# Altium footprint library RF_Shielding.PcbLib: 30 footprints (part 2 of 2)
Each footprint in its own frame and in the unit in brackets; x right, y up, seen from the top. Pads: shape width x height; smd on the part's side, far side on the other; paste and mask are expansions set on the pad; w line width, h text height; cw(c..) or ccw(c..) is an arc to the next point about the centre after c.
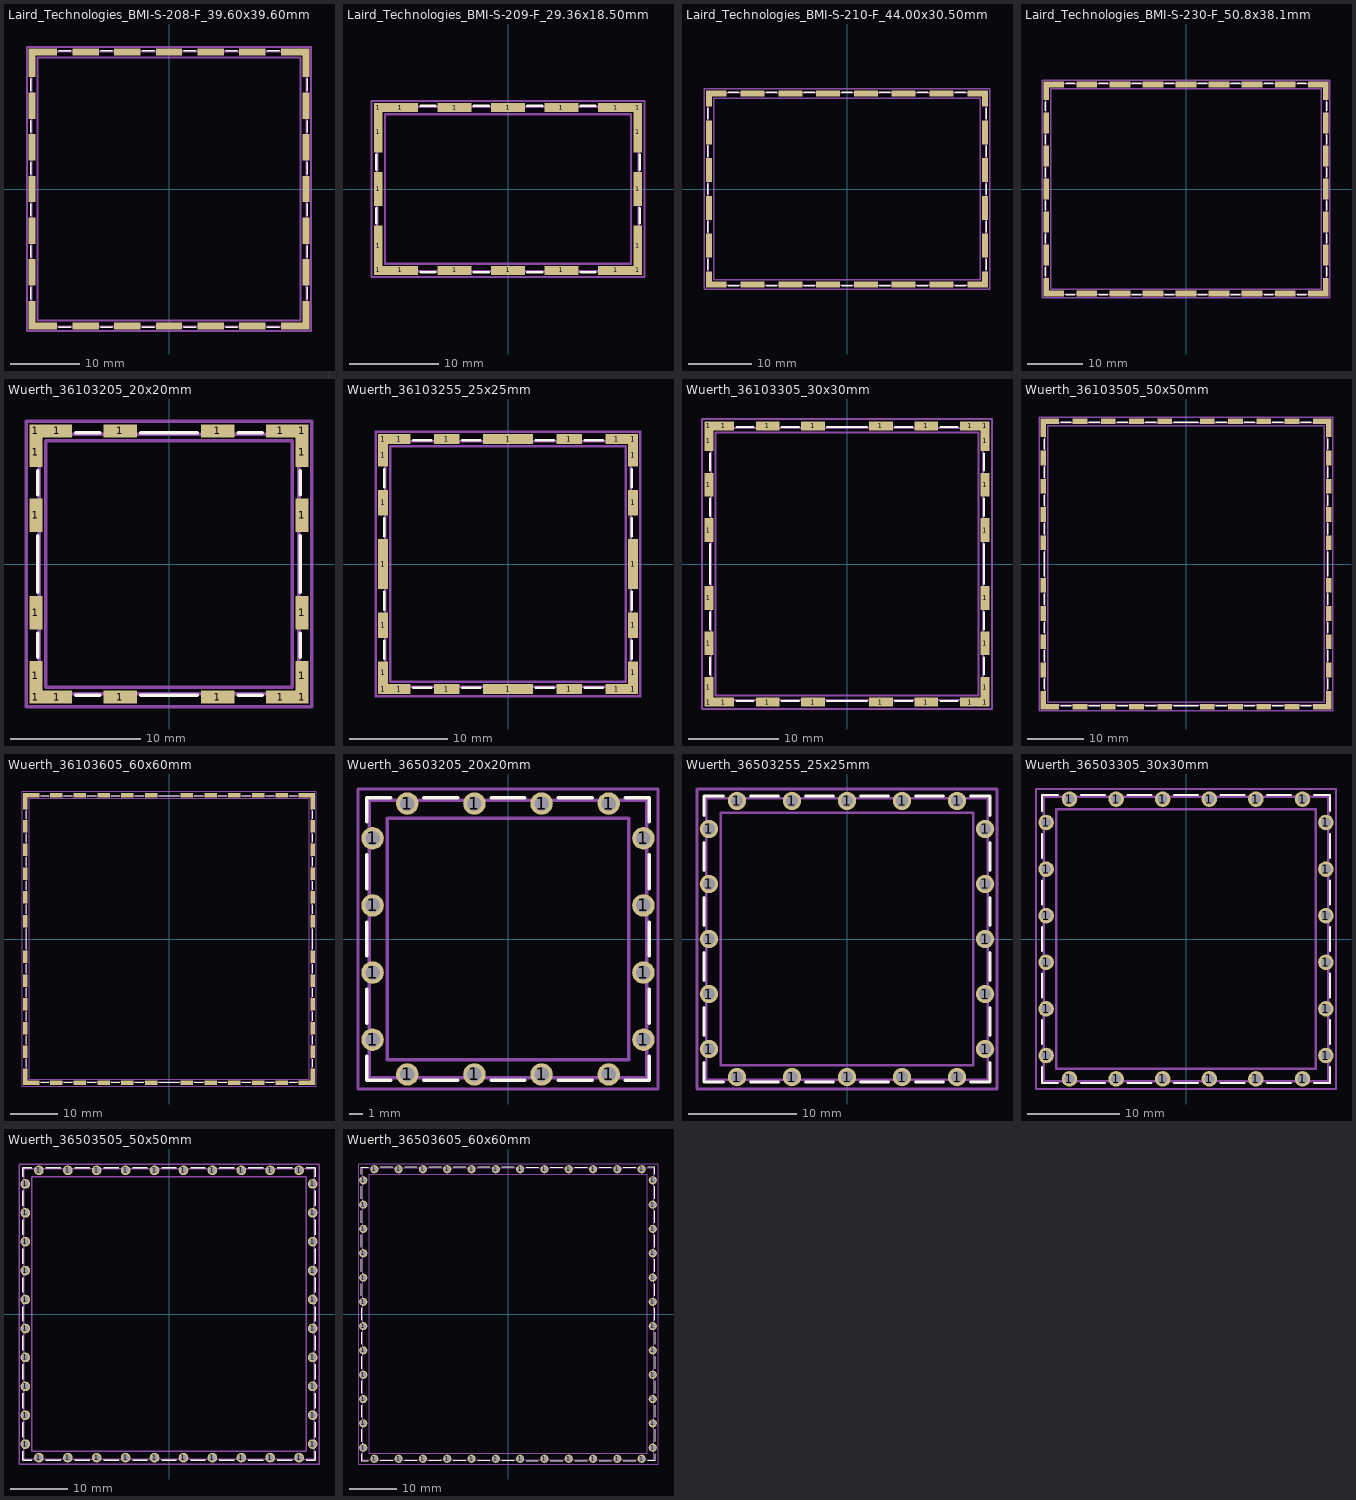
[diagram p1: the footprints below, top view; thin cyan lines are the x and y axes]

## Laird_Technologies_BMI-S-208-F_39.60x39.60mm [mm]
pads (32):
  rect 1x1 smd: 1(-19.7,-19.7) 1(-19.7,19.7) 1(19.7,-19.7) 1(19.7,19.7)
  rect 1x3.1 smd: 1(-19.7,-17.65) 1(-19.7,17.65) 1(19.7,-17.65) 1(19.7,17.65)
  rect 1x3.8 smd: 1(-19.7,-12) 1(-19.7,-6) 1(-19.7,0) 1(-19.7,6) 1(-19.7,12) 1(19.7,-12) 1(19.7,-6) 1(19.7,0) 1(19.7,6) 1(19.7,12)
  rect 3.1x1 smd: 1(-17.65,-19.7) 1(-17.65,19.7) 1(17.65,-19.7) 1(17.65,19.7)
  rect 3.8x1 smd: 1(-12,-19.7) 1(-12,19.7) 1(-6,-19.7) 1(-6,19.7) 1(0,-19.7) 1(0,19.7) 1(6,-19.7) 1(6,19.7) 1(12,-19.7) 1(12,19.7)
F.SilkS:
  lines w0.254: -19.91,-15.84 -19.91,-14.16 ; -19.91,-9.84 -19.91,-8.16 ; -19.91,-3.84 -19.91,-2.16 ; -19.91,2.16 -19.91,3.84 ; -19.91,8.16 -19.91,9.84 ; -19.91,14.16 -19.91,15.84 ; -15.84,-19.91 -14.16,-19.91 ; -15.84,19.91 -14.16,19.91 ; -9.84,-19.91 -8.16,-19.91 ; -9.84,19.91 -8.16,19.91 ; -3.84,-19.91 -2.16,-19.91 ; -3.84,19.91 -2.16,19.91 ; 2.16,-19.91 3.84,-19.91 ; 2.16,19.91 3.84,19.91 ; 8.16,-19.91 9.84,-19.91 ; 8.16,19.91 9.84,19.91 ; 14.16,-19.91 15.84,-19.91 ; 14.16,19.91 15.84,19.91 ; 19.91,-15.84 19.91,-14.16 ; 19.91,-9.84 19.91,-8.16 ; 19.91,-3.84 19.91,-2.16 ; 19.91,2.16 19.91,3.84 ; 19.91,8.16 19.91,9.84 ; 19.91,14.16 19.91,15.84
F.Fab:
  lines w0.254: -19.8,-19.8 -19.8,19.8 19.8,19.8 19.8,-19.8 -19.8,-19.8
  text "'.Designator'" at -4.047,-0.84 h1
F.CrtYd:
  lines w0.254: -20.45,-20.45 -20.45,20.45 20.45,20.45 20.45,-20.45 -20.45,-20.45 ; -18.95,-18.95 -18.95,18.95 18.95,18.95 18.95,-18.95 -18.95,-18.95

## Laird_Technologies_BMI-S-209-F_29.36x18.50mm [mm]
pads (20):
  rect 1x1 smd: 1(-14.58,-9.15) 1(-14.58,9.15) 1(14.58,-9.15) 1(14.58,9.15)
  rect 1x4.55 smd: 1(-14.58,-6.375) 1(-14.58,6.375) 1(14.58,-6.375) 1(14.58,6.375)
  rect 1x3.8 smd: 1(-14.58,0) 1(14.58,0)
  rect 3.98x1 smd: 1(-12.09,-9.15) 1(-12.09,9.15) 1(12.09,-9.15) 1(12.09,9.15)
  rect 3.8x1 smd: 1(-6,-9.15) 1(-6,9.15) 1(0,-9.15) 1(0,9.15) 1(6,-9.15) 1(6,9.15)
F.SilkS:
  lines w0.254: -14.79,-3.84 -14.79,-2.16 ; -14.79,2.16 -14.79,3.84 ; -9.84,-9.36 -8.16,-9.36 ; -9.84,9.36 -8.16,9.36 ; -3.84,-9.36 -2.16,-9.36 ; -3.84,9.36 -2.16,9.36 ; 2.16,-9.36 3.84,-9.36 ; 2.16,9.36 3.84,9.36 ; 8.16,-9.36 9.84,-9.36 ; 8.16,9.36 9.84,9.36 ; 14.79,-3.84 14.79,-2.16 ; 14.79,2.16 14.79,3.84
F.Fab:
  lines w0.254: -14.68,-9.25 -14.68,9.25 14.68,9.25 14.68,-9.25 -14.68,-9.25
  text "'.Designator'" at -4.047,-0.84 h1
F.CrtYd:
  lines w0.254: -15.33,-9.9 -15.33,9.9 15.33,9.9 15.33,-9.9 -15.33,-9.9 ; -13.83,-8.4 -13.83,8.4 13.83,8.4 13.83,-8.4 -13.83,-8.4

## Laird_Technologies_BMI-S-210-F_44.00x30.50mm [mm]
pads (32):
  rect 1x1 smd: 1(-21.9,-15.15) 1(-21.9,15.15) 1(21.9,-15.15) 1(21.9,15.15)
  rect 1x1.55 smd: 1(-21.9,-13.875) 1(-21.9,13.875) 1(21.9,-13.875) 1(21.9,13.875)
  rect 1x3.8 smd: 1(-21.9,-9) 1(-21.9,-3) 1(-21.9,3) 1(-21.9,9) 1(21.9,-9) 1(21.9,-3) 1(21.9,3) 1(21.9,9)
  rect 2.3x1 smd: 1(-20.25,-15.15) 1(-20.25,15.15) 1(20.25,-15.15) 1(20.25,15.15)
  rect 3.8x1 smd: 1(-15,-15.15) 1(-15,15.15) 1(-9,-15.15) 1(-9,15.15) 1(-3,-15.15) 1(-3,15.15) 1(3,-15.15) 1(3,15.15) 1(9,-15.15) 1(9,15.15) 1(15,-15.15) 1(15,15.15)
F.SilkS:
  lines w0.254: -22.11,-12.84 -22.11,-11.16 ; -22.11,-6.84 -22.11,-5.16 ; -22.11,-0.84 -22.11,0.84 ; -22.11,5.16 -22.11,6.84 ; -22.11,11.16 -22.11,12.84 ; -18.84,-15.36 -17.16,-15.36 ; -18.84,15.36 -17.16,15.36 ; -12.84,-15.36 -11.16,-15.36 ; -12.84,15.36 -11.16,15.36 ; -6.84,-15.36 -5.16,-15.36 ; -6.84,15.36 -5.16,15.36 ; -0.84,-15.36 0.84,-15.36 ; -0.84,15.36 0.84,15.36 ; 5.16,-15.36 6.84,-15.36 ; 5.16,15.36 6.84,15.36 ; 11.16,-15.36 12.84,-15.36 ; 11.16,15.36 12.84,15.36 ; 17.16,-15.36 18.84,-15.36 ; 17.16,15.36 18.84,15.36 ; 22.11,-12.84 22.11,-11.16 ; 22.11,-6.84 22.11,-5.16 ; 22.11,-0.84 22.11,0.84 ; 22.11,5.16 22.11,6.84 ; 22.11,11.16 22.11,12.84
F.Fab:
  lines w0.254: -22,-15.25 -22,15.25 22,15.25 22,-15.25 -22,-15.25
  text "'.Designator'" at -4.047,-0.84 h1
F.CrtYd:
  lines w0.254: -22.65,-15.9 -22.65,15.9 22.65,15.9 22.65,-15.9 -22.65,-15.9 ; -21.15,-14.4 -21.15,14.4 21.15,14.4 21.15,-14.4 -21.15,-14.4

## Laird_Technologies_BMI-S-230-F_50.8x38.1mm [mm]
pads (36):
  rect 1x1 smd: 1(-25.3,-18.95) 1(-25.3,18.95) 1(25.3,-18.95) 1(25.3,18.95)
  rect 1x2.35 smd: 1(-25.3,-17.275) 1(-25.3,17.275) 1(25.3,-17.275) 1(25.3,17.275)
  rect 1x3.8 smd: 1(-25.3,-12) 1(-25.3,-6) 1(-25.3,0) 1(-25.3,6) 1(-25.3,12) 1(25.3,-12) 1(25.3,-6) 1(25.3,0) 1(25.3,6) 1(25.3,12)
  rect 2.7x1 smd: 1(-23.45,-18.95) 1(-23.45,18.95) 1(23.45,-18.95) 1(23.45,18.95)
  rect 3.8x1 smd: 1(-18,-18.95) 1(-18,18.95) 1(-12,-18.95) 1(-12,18.95) 1(-6,-18.95) 1(-6,18.95) 1(0,-18.95) 1(0,18.95) 1(6,-18.95) 1(6,18.95) 1(12,-18.95) 1(12,18.95) 1(18,-18.95) 1(18,18.95)
F.SilkS:
  lines w0.254: -25.51,-15.84 -25.51,-14.16 ; -25.51,-9.84 -25.51,-8.16 ; -25.51,-3.84 -25.51,-2.16 ; -25.51,2.16 -25.51,3.84 ; -25.51,8.16 -25.51,9.84 ; -25.51,14.16 -25.51,15.84 ; -21.84,-19.16 -20.16,-19.16 ; -21.84,19.16 -20.16,19.16 ; -15.84,-19.16 -14.16,-19.16 ; -15.84,19.16 -14.16,19.16 ; -9.84,-19.16 -8.16,-19.16 ; -9.84,19.16 -8.16,19.16 ; -3.84,-19.16 -2.16,-19.16 ; -3.84,19.16 -2.16,19.16 ; 2.16,-19.16 3.84,-19.16 ; 2.16,19.16 3.84,19.16 ; 8.16,-19.16 9.84,-19.16 ; 8.16,19.16 9.84,19.16 ; 14.16,-19.16 15.84,-19.16 ; 14.16,19.16 15.84,19.16 ; 20.16,-19.16 21.84,-19.16 ; 20.16,19.16 21.84,19.16 ; 25.51,-15.84 25.51,-14.16 ; 25.51,-9.84 25.51,-8.16 ; 25.51,-3.84 25.51,-2.16 ; 25.51,2.16 25.51,3.84 ; 25.51,8.16 25.51,9.84 ; 25.51,14.16 25.51,15.84
F.Fab:
  lines w0.254: -25.4,-19.05 -25.4,19.05 25.4,19.05 25.4,-19.05 -25.4,-19.05
  text "'.Designator'" at -4.047,-0.84 h1
F.CrtYd:
  lines w0.254: -26.05,-19.7 -26.05,19.7 26.05,19.7 26.05,-19.7 -26.05,-19.7 ; -24.55,-18.2 -24.55,18.2 24.55,18.2 24.55,-18.2 -24.55,-18.2

## Wuerth_36103205_20x20mm [mm]
pads (20):
  rect 1x1 smd: 1(-10.25,-10.25) 1(-10.25,10.25) 1(10.25,-10.25) 1(10.25,10.25)
  rect 1x2.3 smd: 1(-10.25,-8.6) 1(-10.25,8.6) 1(10.25,-8.6) 1(10.25,8.6)
  rect 1x2.6 smd: 1(-10.25,-3.75) 1(-10.25,3.75) 1(10.25,-3.75) 1(10.25,3.75)
  rect 2.3x1 smd: 1(-8.6,-10.25) 1(-8.6,10.25) 1(8.6,-10.25) 1(8.6,10.25)
  rect 2.6x1 smd: 1(-3.75,-10.25) 1(-3.75,10.25) 1(3.75,-10.25) 1(3.75,10.25)
F.SilkS:
  lines w0.254: -10.11,-7.19 -10.11,-5.31 ; -10.11,-2.19 -10.11,2.19 ; -10.11,5.31 -10.11,7.19 ; -7.19,-10.11 -5.31,-10.11 ; -7.19,10.11 -5.31,10.11 ; -2.19,-10.11 2.19,-10.11 ; -2.19,10.11 2.19,10.11 ; 5.31,-10.11 7.19,-10.11 ; 5.31,10.11 7.19,10.11 ; 10.11,-7.19 10.11,-5.31 ; 10.11,-2.19 10.11,2.19 ; 10.11,5.31 10.11,7.19
F.Fab:
  lines w0.254: -10,-10 -10,10 10,10 10,-10 -10,-10
  text "'.Designator'" at -4.047,-0.84 h1
F.CrtYd:
  lines w0.254: -11,-11 -11,11 11,11 11,-11 -11,-11 ; -9.5,-9.5 -9.5,9.5 9.5,9.5 9.5,-9.5 -9.5,-9.5

## Wuerth_36103255_25x25mm [mm]
pads (24):
  rect 1x1 smd: 1(-12.75,-12.75) 1(-12.75,12.75) 1(12.75,-12.75) 1(12.75,12.75)
  rect 1x2.3 smd: 1(-12.75,-11.1) 1(-12.75,11.1) 1(12.75,-11.1) 1(12.75,11.1)
  rect 1x2.6 smd: 1(-12.75,-6.25) 1(-12.75,6.25) 1(12.75,-6.25) 1(12.75,6.25)
  rect 1x5.1 smd: 1(-12.75,0) 1(12.75,0)
  rect 2.3x1 smd: 1(-11.1,-12.75) 1(-11.1,12.75) 1(11.1,-12.75) 1(11.1,12.75)
  rect 2.6x1 smd: 1(-6.25,-12.75) 1(-6.25,12.75) 1(6.25,-12.75) 1(6.25,12.75)
  rect 5.1x1 smd: 1(0,-12.75) 1(0,12.75)
F.SilkS:
  lines w0.254: -12.61,-9.69 -12.61,-7.81 ; -12.61,-4.69 -12.61,-2.81 ; -12.61,2.81 -12.61,4.69 ; -12.61,7.81 -12.61,9.69 ; -9.69,-12.61 -7.81,-12.61 ; -9.69,12.61 -7.81,12.61 ; -4.69,-12.61 -2.81,-12.61 ; -4.69,12.61 -2.81,12.61 ; 2.81,-12.61 4.69,-12.61 ; 2.81,12.61 4.69,12.61 ; 7.81,-12.61 9.69,-12.61 ; 7.81,12.61 9.69,12.61 ; 12.61,-9.69 12.61,-7.81 ; 12.61,-4.69 12.61,-2.81 ; 12.61,2.81 12.61,4.69 ; 12.61,7.81 12.61,9.69
F.Fab:
  lines w0.254: -12.5,-12.5 -12.5,12.5 12.5,12.5 12.5,-12.5 -12.5,-12.5
  text "'.Designator'" at -4.047,-0.84 h1
F.CrtYd:
  lines w0.254: -13.5,-13.5 -13.5,13.5 13.5,13.5 13.5,-13.5 -13.5,-13.5 ; -12,-12 -12,12 12,12 12,-12 -12,-12

## Wuerth_36103305_30x30mm [mm]
pads (28):
  rect 1x1 smd: 1(-15.25,-15.25) 1(-15.25,15.25) 1(15.25,-15.25) 1(15.25,15.25)
  rect 1x2.3 smd: 1(-15.25,-13.6) 1(-15.25,13.6) 1(15.25,-13.6) 1(15.25,13.6)
  rect 1x2.6 smd: 1(-15.25,-8.75) 1(-15.25,-3.75) 1(-15.25,3.75) 1(-15.25,8.75) 1(15.25,-8.75) 1(15.25,-3.75) 1(15.25,3.75) 1(15.25,8.75)
  rect 2.3x1 smd: 1(-13.6,-15.25) 1(-13.6,15.25) 1(13.6,-15.25) 1(13.6,15.25)
  rect 2.6x1 smd: 1(-8.75,-15.25) 1(-8.75,15.25) 1(-3.75,-15.25) 1(-3.75,15.25) 1(3.75,-15.25) 1(3.75,15.25) 1(8.75,-15.25) 1(8.75,15.25)
F.SilkS:
  lines w0.254: -15.11,-12.19 -15.11,-10.31 ; -15.11,-7.19 -15.11,-5.31 ; -15.11,-2.19 -15.11,2.19 ; -15.11,5.31 -15.11,7.19 ; -15.11,10.31 -15.11,12.19 ; -12.19,-15.11 -10.31,-15.11 ; -12.19,15.11 -10.31,15.11 ; -7.19,-15.11 -5.31,-15.11 ; -7.19,15.11 -5.31,15.11 ; -2.19,-15.11 2.19,-15.11 ; -2.19,15.11 2.19,15.11 ; 5.31,-15.11 7.19,-15.11 ; 5.31,15.11 7.19,15.11 ; 10.31,-15.11 12.19,-15.11 ; 10.31,15.11 12.19,15.11 ; 15.11,-12.19 15.11,-10.31 ; 15.11,-7.19 15.11,-5.31 ; 15.11,-2.19 15.11,2.19 ; 15.11,5.31 15.11,7.19 ; 15.11,10.31 15.11,12.19
F.Fab:
  lines w0.254: -15,-15 -15,15 15,15 15,-15 -15,-15
  text "'.Designator'" at -4.047,-0.84 h1
F.CrtYd:
  lines w0.254: -16,-16 -16,16 16,16 16,-16 -16,-16 ; -14.5,-14.5 -14.5,14.5 14.5,14.5 14.5,-14.5 -14.5,-14.5

## Wuerth_36103505_50x50mm [mm]
pads (44):
  rect 1x1 smd: 1(-25.25,-25.25) 1(-25.25,25.25) 1(25.25,-25.25) 1(25.25,25.25)
  rect 1x2.3 smd: 1(-25.25,-23.6) 1(-25.25,23.6) 1(25.25,-23.6) 1(25.25,23.6)
  rect 1x2.6 smd: 1(-25.25,-18.75) 1(-25.25,-13.75) 1(-25.25,-8.75) 1(-25.25,-3.75) 1(-25.25,3.75) 1(-25.25,8.75) 1(-25.25,13.75) 1(-25.25,18.75) 1(25.25,-18.75) 1(25.25,-13.75) 1(25.25,-8.75) 1(25.25,-3.75) 1(25.25,3.75) 1(25.25,8.75) 1(25.25,13.75) 1(25.25,18.75)
  rect 2.3x1 smd: 1(-23.6,-25.25) 1(-23.6,25.25) 1(23.6,-25.25) 1(23.6,25.25)
  rect 2.6x1 smd: 1(-18.75,-25.25) 1(-18.75,25.25) 1(-13.75,-25.25) 1(-13.75,25.25) 1(-8.75,-25.25) 1(-8.75,25.25) 1(-3.75,-25.25) 1(-3.75,25.25) 1(3.75,-25.25) 1(3.75,25.25) 1(8.75,-25.25) 1(8.75,25.25) 1(13.75,-25.25) 1(13.75,25.25) 1(18.75,-25.25) 1(18.75,25.25)
F.SilkS:
  lines w0.254: -25.11,-22.19 -25.11,-20.31 ; -25.11,-17.19 -25.11,-15.31 ; -25.11,-12.19 -25.11,-10.31 ; -25.11,-7.19 -25.11,-5.31 ; -25.11,-2.19 -25.11,2.19 ; -25.11,5.31 -25.11,7.19 ; -25.11,10.31 -25.11,12.19 ; -25.11,15.31 -25.11,17.19 ; -25.11,20.31 -25.11,22.19 ; -22.19,-25.11 -20.31,-25.11 ; -22.19,25.11 -20.31,25.11 ; -17.19,-25.11 -15.31,-25.11 ; -17.19,25.11 -15.31,25.11 ; -12.19,-25.11 -10.31,-25.11 ; -12.19,25.11 -10.31,25.11 ; -7.19,-25.11 -5.31,-25.11 ; -7.19,25.11 -5.31,25.11 ; -2.19,-25.11 2.19,-25.11 ; -2.19,25.11 2.19,25.11 ; 5.31,-25.11 7.19,-25.11 ; 5.31,25.11 7.19,25.11 ; 10.31,-25.11 12.19,-25.11 ; 10.31,25.11 12.19,25.11 ; 15.31,-25.11 17.19,-25.11 ; 15.31,25.11 17.19,25.11 ; 20.31,-25.11 22.19,-25.11 ; 20.31,25.11 22.19,25.11 ; 25.11,-22.19 25.11,-20.31 ; 25.11,-17.19 25.11,-15.31 ; 25.11,-12.19 25.11,-10.31 ; 25.11,-7.19 25.11,-5.31 ; 25.11,-2.19 25.11,2.19 ; 25.11,5.31 25.11,7.19 ; 25.11,10.31 25.11,12.19 ; 25.11,15.31 25.11,17.19 ; 25.11,20.31 25.11,22.19
F.Fab:
  lines w0.254: -25,-25 -25,25 25,25 25,-25 -25,-25
  text "'.Designator'" at -4.047,-0.84 h1
F.CrtYd:
  lines w0.254: -26,-26 -26,26 26,26 26,-26 -26,-26 ; -24.5,-24.5 -24.5,24.5 24.5,24.5 24.5,-24.5 -24.5,-24.5

## Wuerth_36103605_60x60mm [mm]
pads (52):
  rect 1x1 smd: 1(-30.25,-30.25) 1(-30.25,30.25) 1(30.25,-30.25) 1(30.25,30.25)
  rect 1x2.5 smd: 1(-30.25,-28.5) 1(-30.25,28.5) 1(30.25,-28.5) 1(30.25,28.5)
  rect 1x2.6 smd: 1(-30.25,-23.75) 1(-30.25,-18.75) 1(-30.25,-13.75) 1(-30.25,-8.75) 1(-30.25,-3.75) 1(-30.25,3.75) 1(-30.25,8.75) 1(-30.25,13.75) 1(-30.25,18.75) 1(-30.25,23.75) 1(30.25,-23.75) 1(30.25,-18.75) 1(30.25,-13.75) 1(30.25,-8.75) 1(30.25,-3.75) 1(30.25,3.75) 1(30.25,8.75) 1(30.25,13.75) 1(30.25,18.75) 1(30.25,23.75)
  rect 2.5x1 smd: 1(-28.5,-30.25) 1(-28.5,30.25) 1(28.5,-30.25) 1(28.5,30.25)
  rect 2.6x1 smd: 1(-23.75,-30.25) 1(-23.75,30.25) 1(-18.75,-30.25) 1(-18.75,30.25) 1(-13.75,-30.25) 1(-13.75,30.25) 1(-8.75,-30.25) 1(-8.75,30.25) 1(-3.75,-30.25) 1(-3.75,30.25) 1(3.75,-30.25) 1(3.75,30.25) 1(8.75,-30.25) 1(8.75,30.25) 1(13.75,-30.25) 1(13.75,30.25) 1(18.75,-30.25) 1(18.75,30.25) 1(23.75,-30.25) 1(23.75,30.25)
F.SilkS:
  lines w0.254: -30.11,-26.99 -30.11,-25.31 ; -30.11,-22.19 -30.11,-20.31 ; -30.11,-17.19 -30.11,-15.31 ; -30.11,-12.19 -30.11,-10.31 ; -30.11,-7.19 -30.11,-5.31 ; -30.11,-2.19 -30.11,2.19 ; -30.11,5.31 -30.11,7.19 ; -30.11,10.31 -30.11,12.19 ; -30.11,15.31 -30.11,17.19 ; -30.11,20.31 -30.11,22.19 ; -30.11,25.31 -30.11,26.99 ; -26.99,-30.11 -25.31,-30.11 ; -26.99,30.11 -25.31,30.11 ; -22.19,-30.11 -20.31,-30.11 ; -22.19,30.11 -20.31,30.11 ; -17.19,-30.11 -15.31,-30.11 ; -17.19,30.11 -15.31,30.11 ; -12.19,-30.11 -10.31,-30.11 ; -12.19,30.11 -10.31,30.11 ; -7.19,-30.11 -5.31,-30.11 ; -7.19,30.11 -5.31,30.11 ; -2.19,-30.11 2.19,-30.11 ; -2.19,30.11 2.19,30.11 ; 5.31,-30.11 7.19,-30.11 ; 5.31,30.11 7.19,30.11 ; 10.31,-30.11 12.19,-30.11 ; 10.31,30.11 12.19,30.11 ; 15.31,-30.11 17.19,-30.11 ; 15.31,30.11 17.19,30.11 ; 20.31,-30.11 22.19,-30.11 ; 20.31,30.11 22.19,30.11 ; 25.31,-30.11 26.99,-30.11 ; 25.31,30.11 26.99,30.11 ; 30.11,-26.99 30.11,-25.31 ; 30.11,-22.19 30.11,-20.31 ; 30.11,-17.19 30.11,-15.31 ; 30.11,-12.19 30.11,-10.31 ; 30.11,-7.19 30.11,-5.31 ; 30.11,-2.19 30.11,2.19 ; 30.11,5.31 30.11,7.19 ; 30.11,10.31 30.11,12.19 ; 30.11,15.31 30.11,17.19 ; 30.11,20.31 30.11,22.19 ; 30.11,25.31 30.11,26.99
F.Fab:
  lines w0.254: -30,-30 -30,30 30,30 30,-30 -30,-30
  text "'.Designator'" at -4.047,-0.84 h1
F.CrtYd:
  lines w0.254: -31,-31 -31,31 31,31 31,-31 -31,-31 ; -29.5,-29.5 -29.5,29.5 29.5,29.5 29.5,-29.5 -29.5,-29.5

## Wuerth_36503205_20x20mm [mm]
pads (16):
  round 1.7 hole 1.1: 1(-10.25,-7.62) 1(-10.25,-2.54) 1(-10.25,2.54) 1(-10.25,7.62) 1(-7.62,-10.25) 1(-7.62,10.25) 1(-2.54,-10.25) 1(-2.54,10.25) 1(2.54,-10.25) 1(2.54,10.25) 1(7.62,-10.25) 1(7.62,10.25) 1(10.25,-7.62) 1(10.25,-2.54) 1(10.25,2.54) 1(10.25,7.62)
F.SilkS:
  lines w0.254: -10.7,-8.87 -10.7,-10.7 -8.87,-10.7 ; -10.7,-6.37 -10.7,-3.79 ; -10.7,-1.29 -10.7,1.29 ; -10.7,3.79 -10.7,6.37 ; -10.7,8.87 -10.7,10.7 -8.87,10.7 ; -6.37,-10.7 -3.79,-10.7 ; -6.37,10.7 -3.79,10.7 ; -1.29,-10.7 1.29,-10.7 ; -1.29,10.7 1.29,10.7 ; 3.79,-10.7 6.37,-10.7 ; 3.79,10.7 6.37,10.7 ; 8.87,-10.7 10.7,-10.7 10.7,-8.87 ; 8.87,10.7 10.7,10.7 10.7,8.87 ; 10.7,-6.37 10.7,-3.79 ; 10.7,-1.29 10.7,1.29 ; 10.7,3.79 10.7,6.37
F.Fab:
  lines w0.254: -10.5,-10.5 -10.5,10.5 10.5,10.5 10.5,-10.5 -10.5,-10.5
  text "'.Designator'" at -4.047,-0.84 h1
F.CrtYd:
  lines w0.254: -11.35,-11.35 -11.35,11.35 11.35,11.35 11.35,-11.35 -11.35,-11.35 ; -9.15,-9.15 -9.15,9.15 9.15,9.15 9.15,-9.15 -9.15,-9.15

## Wuerth_36503255_25x25mm [mm]
pads (20):
  round 1.7 hole 1.1: 1(-12.75,-10.16) 1(-12.75,-5.08) 1(-12.75,0) 1(-12.75,5.08) 1(-12.75,10.16) 1(-10.16,-12.75) 1(-10.16,12.75) 1(-5.08,-12.75) 1(-5.08,12.75) 1(0,-12.75) 1(0,12.75) 1(5.08,-12.75) 1(5.08,12.75) 1(10.16,-12.75) 1(10.16,12.75) 1(12.75,-10.16) 1(12.75,-5.08) 1(12.75,0) 1(12.75,5.08) 1(12.75,10.16)
F.SilkS:
  lines w0.254: -13.2,-11.41 -13.2,-13.2 -11.41,-13.2 ; -13.2,-8.91 -13.2,-6.33 ; -13.2,-3.83 -13.2,-1.25 ; -13.2,1.25 -13.2,3.83 ; -13.2,6.33 -13.2,8.91 ; -13.2,11.41 -13.2,13.2 -11.41,13.2 ; -8.91,-13.2 -6.33,-13.2 ; -8.91,13.2 -6.33,13.2 ; -3.83,-13.2 -1.25,-13.2 ; -3.83,13.2 -1.25,13.2 ; 1.25,-13.2 3.83,-13.2 ; 1.25,13.2 3.83,13.2 ; 6.33,-13.2 8.91,-13.2 ; 6.33,13.2 8.91,13.2 ; 11.41,-13.2 13.2,-13.2 13.2,-11.41 ; 11.41,13.2 13.2,13.2 13.2,11.41 ; 13.2,-8.91 13.2,-6.33 ; 13.2,-3.83 13.2,-1.25 ; 13.2,1.25 13.2,3.83 ; 13.2,6.33 13.2,8.91
F.Fab:
  lines w0.254: -13,-13 -13,13 13,13 13,-13 -13,-13
  text "'.Designator'" at -4.047,-0.84 h1
F.CrtYd:
  lines w0.254: -13.85,-13.85 -13.85,13.85 13.85,13.85 13.85,-13.85 -13.85,-13.85 ; -11.65,-11.65 -11.65,11.65 11.65,11.65 11.65,-11.65 -11.65,-11.65

## Wuerth_36503305_30x30mm [mm]
pads (24):
  round 1.7 hole 1.1: 1(-15.25,-12.7) 1(-15.25,-7.62) 1(-15.25,-2.54) 1(-15.25,2.54) 1(-15.25,7.62) 1(-15.25,12.7) 1(-12.7,-15.25) 1(-12.7,15.25) 1(-7.62,-15.25) 1(-7.62,15.25) 1(-2.54,-15.25) 1(-2.54,15.25) 1(2.54,-15.25) 1(2.54,15.25) 1(7.62,-15.25) 1(7.62,15.25) 1(12.7,-15.25) 1(12.7,15.25) 1(15.25,-12.7) 1(15.25,-7.62) 1(15.25,-2.54) 1(15.25,2.54) 1(15.25,7.62) 1(15.25,12.7)
F.SilkS:
  lines w0.254: -15.7,-13.95 -15.7,-15.7 -13.95,-15.7 ; -15.7,-11.45 -15.7,-8.87 ; -15.7,-6.37 -15.7,-3.79 ; -15.7,-1.29 -15.7,1.29 ; -15.7,3.79 -15.7,6.37 ; -15.7,8.87 -15.7,11.45 ; -15.7,13.95 -15.7,15.7 -13.95,15.7 ; -11.45,-15.7 -8.87,-15.7 ; -11.45,15.7 -8.87,15.7 ; -6.37,-15.7 -3.79,-15.7 ; -6.37,15.7 -3.79,15.7 ; -1.29,-15.7 1.29,-15.7 ; -1.29,15.7 1.29,15.7 ; 3.79,-15.7 6.37,-15.7 ; 3.79,15.7 6.37,15.7 ; 8.87,-15.7 11.45,-15.7 ; 8.87,15.7 11.45,15.7 ; 13.95,-15.7 15.7,-15.7 15.7,-13.95 ; 13.95,15.7 15.7,15.7 15.7,13.95 ; 15.7,-11.45 15.7,-8.87 ; 15.7,-6.37 15.7,-3.79 ; 15.7,-1.29 15.7,1.29 ; 15.7,3.79 15.7,6.37 ; 15.7,8.87 15.7,11.45
F.Fab:
  lines w0.254: -15.5,-15.5 -15.5,15.5 15.5,15.5 15.5,-15.5 -15.5,-15.5
  text "'.Designator'" at -4.047,-0.84 h1
F.CrtYd:
  lines w0.254: -16.35,-16.35 -16.35,16.35 16.35,16.35 16.35,-16.35 -16.35,-16.35 ; -14.15,-14.15 -14.15,14.15 14.15,14.15 14.15,-14.15 -14.15,-14.15

## Wuerth_36503505_50x50mm [mm]
pads (40):
  round 1.7 hole 1.1: 1(-25.25,-22.86) 1(-25.25,-17.78) 1(-25.25,-12.7) 1(-25.25,-7.62) 1(-25.25,-2.54) 1(-25.25,2.54) 1(-25.25,7.62) 1(-25.25,12.7) 1(-25.25,17.78) 1(-25.25,22.86) 1(-22.86,-25.25) 1(-22.86,25.25) 1(-17.78,-25.25) 1(-17.78,25.25) 1(-12.7,-25.25) 1(-12.7,25.25) 1(-7.62,-25.25) 1(-7.62,25.25) 1(-2.54,-25.25) 1(-2.54,25.25) 1(2.54,-25.25) 1(2.54,25.25) 1(7.62,-25.25) 1(7.62,25.25) 1(12.7,-25.25) 1(12.7,25.25) 1(17.78,-25.25) 1(17.78,25.25) 1(22.86,-25.25) 1(22.86,25.25) 1(25.25,-22.86) 1(25.25,-17.78) 1(25.25,-12.7) 1(25.25,-7.62) 1(25.25,-2.54) 1(25.25,2.54) 1(25.25,7.62) 1(25.25,12.7) 1(25.25,17.78) 1(25.25,22.86)
F.SilkS:
  lines w0.254: -25.7,-24.11 -25.7,-25.7 -24.11,-25.7 ; -25.7,-21.61 -25.7,-19.03 ; -25.7,-16.53 -25.7,-13.95 ; -25.7,-11.45 -25.7,-8.87 ; -25.7,-6.37 -25.7,-3.79 ; -25.7,-1.29 -25.7,1.29 ; -25.7,3.79 -25.7,6.37 ; -25.7,8.87 -25.7,11.45 ; -25.7,13.95 -25.7,16.53 ; -25.7,19.03 -25.7,21.61 ; -25.7,24.11 -25.7,25.7 -24.11,25.7 ; -21.61,-25.7 -19.03,-25.7 ; -21.61,25.7 -19.03,25.7 ; -16.53,-25.7 -13.95,-25.7 ; -16.53,25.7 -13.95,25.7 ; -11.45,-25.7 -8.87,-25.7 ; -11.45,25.7 -8.87,25.7 ; -6.37,-25.7 -3.79,-25.7 ; -6.37,25.7 -3.79,25.7 ; -1.29,-25.7 1.29,-25.7 ; -1.29,25.7 1.29,25.7 ; 3.79,-25.7 6.37,-25.7 ; 3.79,25.7 6.37,25.7 ; 8.87,-25.7 11.45,-25.7 ; 8.87,25.7 11.45,25.7 ; 13.95,-25.7 16.53,-25.7 ; 13.95,25.7 16.53,25.7 ; 19.03,-25.7 21.61,-25.7 ; 19.03,25.7 21.61,25.7 ; 24.11,-25.7 25.7,-25.7 25.7,-24.11 ; 24.11,25.7 25.7,25.7 25.7,24.11 ; 25.7,-21.61 25.7,-19.03 ; 25.7,-16.53 25.7,-13.95 ; 25.7,-11.45 25.7,-8.87 ; 25.7,-6.37 25.7,-3.79 ; 25.7,-1.29 25.7,1.29 ; 25.7,3.79 25.7,6.37 ; 25.7,8.87 25.7,11.45 ; 25.7,13.95 25.7,16.53 ; 25.7,19.03 25.7,21.61
F.Fab:
  lines w0.254: -25.5,-25.5 -25.5,25.5 25.5,25.5 25.5,-25.5 -25.5,-25.5
  text "'.Designator'" at -4.047,-0.84 h1
F.CrtYd:
  lines w0.254: -26.35,-26.35 -26.35,26.35 26.35,26.35 26.35,-26.35 -26.35,-26.35 ; -24.15,-24.15 -24.15,24.15 24.15,24.15 24.15,-24.15 -24.15,-24.15

## Wuerth_36503605_60x60mm [mm]
pads (48):
  round 1.7 hole 1.1: 1(-30.25,-27.94) 1(-30.25,-22.86) 1(-30.25,-17.78) 1(-30.25,-12.7) 1(-30.25,-7.62) 1(-30.25,-2.54) 1(-30.25,2.54) 1(-30.25,7.62) 1(-30.25,12.7) 1(-30.25,17.78) 1(-30.25,22.86) 1(-30.25,27.94) 1(-27.94,-30.25) 1(-27.94,30.25) 1(-22.86,-30.25) 1(-22.86,30.25) 1(-17.78,-30.25) 1(-17.78,30.25) 1(-12.7,-30.25) 1(-12.7,30.25) 1(-7.62,-30.25) 1(-7.62,30.25) 1(-2.54,-30.25) 1(-2.54,30.25) 1(2.54,-30.25) 1(2.54,30.25) 1(7.62,-30.25) 1(7.62,30.25) 1(12.7,-30.25) 1(12.7,30.25) 1(17.78,-30.25) 1(17.78,30.25) 1(22.86,-30.25) 1(22.86,30.25) 1(27.94,-30.25) 1(27.94,30.25) 1(30.25,-27.94) 1(30.25,-22.86) 1(30.25,-17.78) 1(30.25,-12.7) 1(30.25,-7.62) 1(30.25,-2.54) 1(30.25,2.54) 1(30.25,7.62) 1(30.25,12.7) 1(30.25,17.78) 1(30.25,22.86) 1(30.25,27.94)
F.SilkS:
  lines w0.254: -30.7,-29.19 -30.7,-30.7 -29.19,-30.7 ; -30.7,-26.69 -30.7,-24.11 ; -30.7,-21.61 -30.7,-19.03 ; -30.7,-16.53 -30.7,-13.95 ; -30.7,-11.45 -30.7,-8.87 ; -30.7,-6.37 -30.7,-3.79 ; -30.7,-1.29 -30.7,1.29 ; -30.7,3.79 -30.7,6.37 ; -30.7,8.87 -30.7,11.45 ; -30.7,13.95 -30.7,16.53 ; -30.7,19.03 -30.7,21.61 ; -30.7,24.11 -30.7,26.69 ; -30.7,29.19 -30.7,30.7 -29.19,30.7 ; -26.69,-30.7 -24.11,-30.7 ; -26.69,30.7 -24.11,30.7 ; -21.61,-30.7 -19.03,-30.7 ; -21.61,30.7 -19.03,30.7 ; -16.53,-30.7 -13.95,-30.7 ; -16.53,30.7 -13.95,30.7 ; -11.45,-30.7 -8.87,-30.7 ; -11.45,30.7 -8.87,30.7 ; -6.37,-30.7 -3.79,-30.7 ; -6.37,30.7 -3.79,30.7 ; -1.29,-30.7 1.29,-30.7 ; -1.29,30.7 1.29,30.7 ; 3.79,-30.7 6.37,-30.7 ; 3.79,30.7 6.37,30.7 ; 8.87,-30.7 11.45,-30.7 ; 8.87,30.7 11.45,30.7 ; 13.95,-30.7 16.53,-30.7 ; 13.95,30.7 16.53,30.7 ; 19.03,-30.7 21.61,-30.7 ; 19.03,30.7 21.61,30.7 ; 24.11,-30.7 26.69,-30.7 ; 24.11,30.7 26.69,30.7 ; 29.19,-30.7 30.7,-30.7 30.7,-29.19 ; 29.19,30.7 30.7,30.7 30.7,29.19 ; 30.7,-26.69 30.7,-24.11 ; 30.7,-21.61 30.7,-19.03 ; 30.7,-16.53 30.7,-13.95 ; 30.7,-11.45 30.7,-8.87 ; 30.7,-6.37 30.7,-3.79 ; 30.7,-1.29 30.7,1.29 ; 30.7,3.79 30.7,6.37 ; 30.7,8.87 30.7,11.45 ; 30.7,13.95 30.7,16.53 ; 30.7,19.03 30.7,21.61 ; 30.7,24.11 30.7,26.69
F.Fab:
  lines w0.254: -30.5,-30.5 -30.5,30.5 30.5,30.5 30.5,-30.5 -30.5,-30.5
  text "'.Designator'" at -4.047,-0.84 h1
F.CrtYd:
  lines w0.254: -31.35,-31.35 -31.35,31.35 31.35,31.35 31.35,-31.35 -31.35,-31.35 ; -29.15,-29.15 -29.15,29.15 29.15,29.15 29.15,-29.15 -29.15,-29.15